# EAGLE library part LT3581 (library microbuilder)
LTC3581 - 3.3A Boost/Inverting DC/DC Converter (Boost/SEPIC/Inverting or Flyback) Digikey: LT3581EDE#PBF-ND
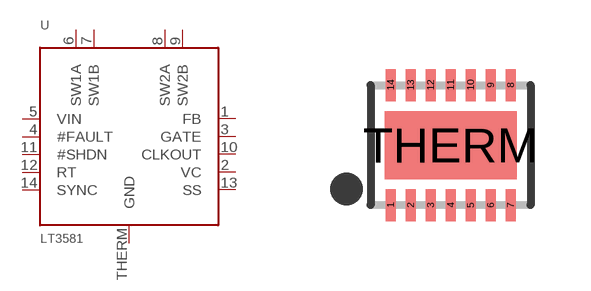
[diagram p105: symbol with the pads of DFN14_4X3MM; footprint DFN14_4X3MM]

Designator prefix U

## LT3581  [DFN14_4X3MM]
1  FB
2  VC
3  GATE
4  #FAULT
5  VIN  pwr
6  SW1A  pwr
7  SW1B  pwr
8  SW2A  pwr
9  SW2B  pwr
10  CLKOUT  out
11  #SHDN
12  RT
13  SS
14  SYNC
THERM  GND  pwr

## Footprint DFN14_4X3MM (pad centres in mm)
14-lead DFN (4.0x3.0mm) Source: http://cds.linear.com/docs/Datasheet/3581f.pdf
smd 0.25 x 0.8: 1 -1.5,-1.5; 2 -1,-1.5; 3 -0.5,-1.5; 4 0,-1.5; 5 0.5,-1.5; 6 1,-1.5; 7 1.5,-1.5; 8 1.5,1.5; 9 1,1.5; 10 0.5,1.5; 11 0,1.5; 12 -0.5,1.5; 13 -1,1.5; 14 -1.5,1.5
smd 3.3 x 1.7: THERM 0,0